# EAGLE library part TOROID_1.6VA (library wheat)
TOROID, PCB MOUNT, 1.6VA TALEMA
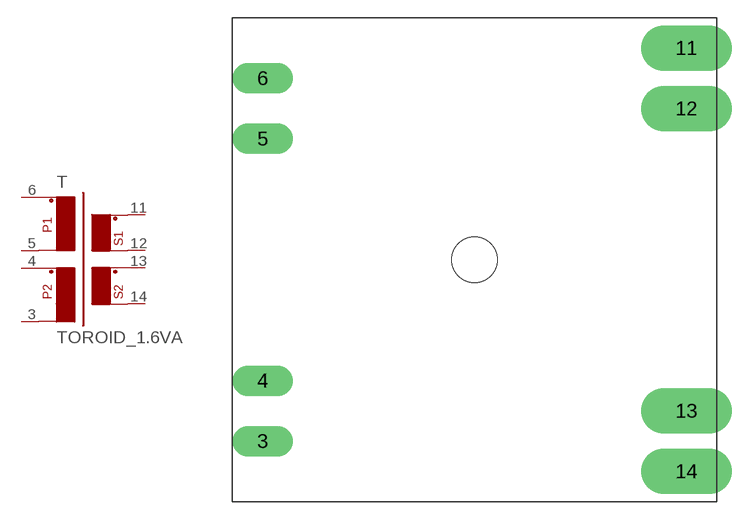
[diagram p27: symbol with the pads of TOROID_1.6VA; footprint TOROID_1.6VA]

Designator prefix T

## TOROID_1.6VA  [TOROID_1.6VA]
3  3  pas
4  4  pas
5  5  pas
6  6  pas
11  11  pas
12  12  pas
13  13  pas
14  14  pas

## Footprint TOROID_1.6VA (pad centres in mm)
TOROID, 1.6VA PCB MOUNT TALEMA
drill 1.422 pad 2.54 long: 3 -17.78,-15.24; 4 -17.78,-10.16; 5 -17.78,10.16; 6 -17.78,15.24
drill 1.422 pad 3.81 long: 11 17.78,17.78; 12 17.78,12.7; 13 17.78,-12.7; 14 17.78,-17.78
hole 3.81 at 0,0